# EAGLE library part ARDUINO-NANO* (library avr-4)
Atmega328 based microcontroller development board
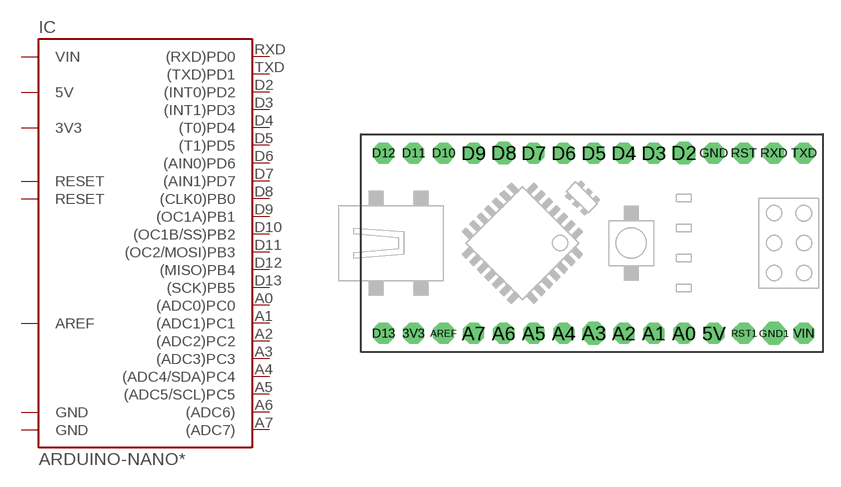
[diagram p59: symbol with the pads of ARDUINO-NANO; footprint ARDUINO-NANO]

Designator prefix IC

## ARDUINO-NANO  [ARDUINO-NANO]
3V3  3V3  pwr
5V  5V  pwr
A0  (ADC0)PC0
A1  (ADC1)PC1
A2  (ADC2)PC2
A3  (ADC3)PC3
A4  (ADC4/SDA)PC4
A5  (ADC5/SCL)PC5
A6  (ADC6)
A7  (ADC7)
AREF  AREF  pas
D2  (INT0)PD2
D3  (INT1)PD3
D4  (T0)PD4
D5  (T1)PD5
D6  (AIN0)PD6
D7  (AIN1)PD7
D8  (CLK0)PB0
D9  (OC1A)PB1
D10  (OC1B/SS)PB2
D11  (OC2/MOSI)PB3
D12  (MISO)PB4
D13  (SCK)PB5
GND  GND  pwr
GND1  GND  pwr
RST  RESET  pas
RST1  RESET  pas
RXD  (RXD)PD0
TXD  (TXD)PD1
VIN  VIN  pwr

## Footprint ARDUINO-NANO (pad centres in mm)
Arduino Nano board 5V
drill 1.016 pad 1.778 octagon: 3V3 -15.24,-7.62; 5V 10.16,-7.62; A0 7.62,-7.62; A1 5.08,-7.62; A2 2.54,-7.62; A4 -2.54,-7.62; A5 -5.08,-7.62; A6 -7.62,-7.62; A7 -10.16,-7.62; AREF -12.7,-7.62; D3 5.08,7.62; D4 2.54,7.62; D5 0,7.62; D6 -2.54,7.62; D7 -5.08,7.62; D9 -10.16,7.62; D10 -12.7,7.62; D11 -15.24,7.62; D12 -17.78,7.62; D13 -17.78,-7.62; GND 10.16,7.62; RST 12.7,7.62; RST1 12.7,-7.62; RXD 15.24,7.62; TXD 17.78,7.62; VIN 17.78,-7.62
drill 1.016 pad 1.93 octagon: A3 0,-7.62; D2 7.62,7.62; D8 -7.62,7.62; GND1 15.24,-7.62